# Altium schematic symbol library Resistors.SchLib: 2 symbols
Pins are listed as number, name and electrical type; pins without a type are passive.

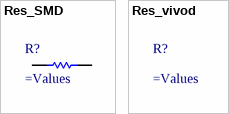
[diagram p0: symbols Res_SMD to Res_vivod]

## Res_SMD
designator R?
резистор SMD
footprint 0402
footprint 0603
footprint 0805
footprint 1206
footprint 1210
footprint 2010
footprint 2512
footprint 3216
pins: 1, 2

## Res_vivod
designator R?
резисторы выводные